# Altium integrated library C4532X7R1C336M250KC.IntLib: 1 symbol
Pins are listed as number, name and electrical type; pins without a type are passive.

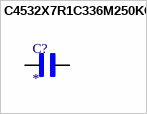
[diagram p0: symbol C4532X7R1C336M250KC]

## C4532X7R1C336M250KC
designator C?
Ceramic Capacitor, 33Uf, 16V, X7R, 20%, 1812, Full Reel; Capacitance:33Îœf; Voltage(Dc):16V; Capacitor Case/Package:1812 [4532 Metric]; Capacitance Tolerance:Â± 20%; Dielectric Characteristic:X7R; Product Range:C Series; Msl:- Rohs Compliant: Yes ¦Tdk C45; MF: TDK; MP: C4532X7R1C336M250KC.; SnapEDA_Link: https://www.snapeda.com/parts/C4532X7R1C336M250KC./TDK/view-part/?ref=snap; Package: 4532-2 TDK; Value: *; Check_prices: https://www.snapeda.com/parts/C4532X7R1C336M250KC./TDK/view-part/?ref=eda
footprint CAP_C4532X7R1C336M250KC
pins: 1, 2